# Altium footprint library SAMTEC-SMM-115-02-X-D.PcbLib: 1 footprints
Each footprint in its own frame and in the unit in brackets; x right, y up, seen from the top. Pads: shape width x height; smd on the part's side, far side on the other; paste and mask are expansions set on the pad; w line width, h text height; cw(c..) or ccw(c..) is an arc to the next point about the centre after c.
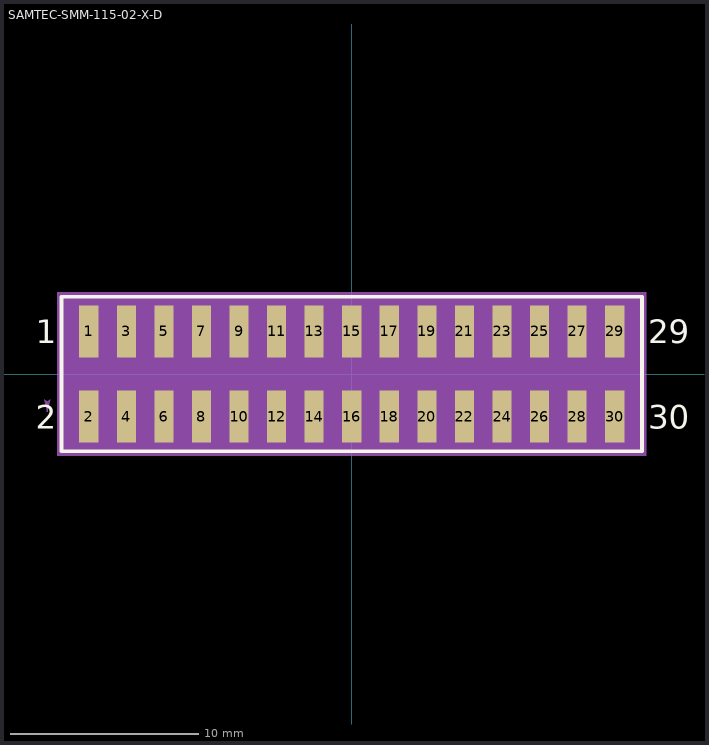
[diagram p0: the footprint, top view; thin cyan lines are the x and y axes]

## SAMTEC-SMM-115-02-X-D [mm]
pads (30):
  rect 1.02x2.77 smd mask+0: 1(-14,2.273) 2(-14,-2.273) 3(-12,2.273) 4(-12,-2.273) 5(-10,2.273) 6(-10,-2.273) 7(-8,2.273) 8(-8,-2.273) 9(-6,2.273) 10(-6,-2.273) 11(-4,2.273) 12(-4,-2.273) 13(-2,2.273) 14(-2,-2.273) 15(0,2.273) 16(0,-2.273) 17(2,2.273) 18(2,-2.273) 19(4,2.273) 20(4,-2.273) 21(6,2.273) 22(6,-2.273) 23(8,2.273) 24(8,-2.273) 25(10,2.273) 26(10,-2.273) 27(12,2.273) 28(12,-2.273) 29(14,2.273) 30(14,-2.273)
Top Overlay:
  lines w0.2: -15.449,-4.109 15.449,-4.109 15.449,4.109 -15.449,4.109 -15.449,-4.109
  text "29" at 15.79,1.638 h1.27
  text "30" at 15.79,-2.908 h1.27
  text "1" at -16.819,1.638 h1.27
  text "2" at -16.819,-2.908 h1.27
Top Paste:
  region: 14.51,-3.658 13.49,-3.658 13.49,-0.888 14.51,-0.888
  region: 14.51,0.888 13.49,0.888 13.49,3.658 14.51,3.658
  region: 12.51,-3.658 11.49,-3.658 11.49,-0.888 12.51,-0.888
  region: 12.51,0.888 11.49,0.888 11.49,3.658 12.51,3.658
  region: 10.51,-3.658 9.49,-3.658 9.49,-0.888 10.51,-0.888
  region: 10.51,0.888 9.49,0.888 9.49,3.658 10.51,3.658
  region: 8.51,-3.658 7.49,-3.658 7.49,-0.888 8.51,-0.888
  region: 8.51,0.888 7.49,0.888 7.49,3.658 8.51,3.658
  region: 6.51,-3.658 5.49,-3.658 5.49,-0.888 6.51,-0.888
  region: 6.51,0.888 5.49,0.888 5.49,3.658 6.51,3.658
  region: 4.51,-3.658 3.49,-3.658 3.49,-0.888 4.51,-0.888
  region: 4.51,0.888 3.49,0.888 3.49,3.658 4.51,3.658
  region: 2.51,-3.658 1.49,-3.658 1.49,-0.888 2.51,-0.888
  region: 2.51,0.888 1.49,0.888 1.49,3.658 2.51,3.658
  region: 0.51,-3.658 -0.51,-3.658 -0.51,-0.888 0.51,-0.888
  region: 0.51,0.888 -0.51,0.888 -0.51,3.658 0.51,3.658
  region: -1.49,-3.658 -2.51,-3.658 -2.51,-0.888 -1.49,-0.888
  region: -1.49,0.888 -2.51,0.888 -2.51,3.658 -1.49,3.658
  region: -3.49,-3.658 -4.51,-3.658 -4.51,-0.888 -3.49,-0.888
  region: -3.49,0.888 -4.51,0.888 -4.51,3.658 -3.49,3.658
  region: -5.49,-3.658 -6.51,-3.658 -6.51,-0.888 -5.49,-0.888
  region: -5.49,0.888 -6.51,0.888 -6.51,3.658 -5.49,3.658
  region: -7.49,-3.658 -8.51,-3.658 -8.51,-0.888 -7.49,-0.888
  region: -7.49,0.888 -8.51,0.888 -8.51,3.658 -7.49,3.658
  region: -9.49,-3.658 -10.51,-3.658 -10.51,-0.888 -9.49,-0.888
  region: -9.49,0.888 -10.51,0.888 -10.51,3.658 -9.49,3.658
  region: -11.49,-3.658 -12.51,-3.658 -12.51,-0.888 -11.49,-0.888
  region: -11.49,0.888 -12.51,0.888 -12.51,3.658 -11.49,3.658
  region: -13.49,-3.658 -14.51,-3.658 -14.51,-0.888 -13.49,-0.888
  region: -13.49,0.888 -14.51,0.888 -14.51,3.658 -13.49,3.658
Top Solder:
  region: 14.561,-3.709 13.439,-3.709 13.439,-0.837 14.561,-0.837
  region: 14.561,0.837 13.439,0.837 13.439,3.709 14.561,3.709
  region: 12.561,-3.709 11.439,-3.709 11.439,-0.837 12.561,-0.837
  region: 12.561,0.837 11.439,0.837 11.439,3.709 12.561,3.709
  region: 10.561,-3.709 9.439,-3.709 9.439,-0.837 10.561,-0.837
  region: 10.561,0.837 9.439,0.837 9.439,3.709 10.561,3.709
  region: 8.561,-3.709 7.439,-3.709 7.439,-0.837 8.561,-0.837
  region: 8.561,0.837 7.439,0.837 7.439,3.709 8.561,3.709
  region: 6.561,-3.709 5.439,-3.709 5.439,-0.837 6.561,-0.837
  region: 6.561,0.837 5.439,0.837 5.439,3.709 6.561,3.709
  region: 4.561,-3.709 3.439,-3.709 3.439,-0.837 4.561,-0.837
  region: 4.561,0.837 3.439,0.837 3.439,3.709 4.561,3.709
  region: 2.561,-3.709 1.439,-3.709 1.439,-0.837 2.561,-0.837
  region: 2.561,0.837 1.439,0.837 1.439,3.709 2.561,3.709
  region: 0.561,-3.709 -0.561,-3.709 -0.561,-0.837 0.561,-0.837
  region: 0.561,0.837 -0.561,0.837 -0.561,3.709 0.561,3.709
  region: -1.439,-3.709 -2.561,-3.709 -2.561,-0.837 -1.439,-0.837
  region: -1.439,0.837 -2.561,0.837 -2.561,3.709 -1.439,3.709
  region: -3.439,-3.709 -4.561,-3.709 -4.561,-0.837 -3.439,-0.837
  region: -3.439,0.837 -4.561,0.837 -4.561,3.709 -3.439,3.709
  region: -5.439,-3.709 -6.561,-3.709 -6.561,-0.837 -5.439,-0.837
  region: -5.439,0.837 -6.561,0.837 -6.561,3.709 -5.439,3.709
  region: -7.439,-3.709 -8.561,-3.709 -8.561,-0.837 -7.439,-0.837
  region: -7.439,0.837 -8.561,0.837 -8.561,3.709 -7.439,3.709
  region: -9.439,-3.709 -10.561,-3.709 -10.561,-0.837 -9.439,-0.837
  region: -9.439,0.837 -10.561,0.837 -10.561,3.709 -9.439,3.709
  region: -11.439,-3.709 -12.561,-3.709 -12.561,-0.837 -11.439,-0.837
  region: -11.439,0.837 -12.561,0.837 -12.561,3.709 -11.439,3.709
  region: -13.439,-3.709 -14.561,-3.709 -14.561,-0.837 -13.439,-0.837
  region: -13.439,0.837 -14.561,0.837 -14.561,3.709 -13.439,3.709
Mechanical 13:
  drawing of 285 lines, arcs and shapes, not listed
  text "29" at 15.79,1.638 h1.27
  text "30" at 15.79,-2.908 h1.27
  text "1" at -16.819,1.638 h1.27
  text "2" at -16.819,-2.908 h1.27
Mechanical 15:
  region: 15.684,-4.344 -15.684,-4.344 -15.684,4.344 15.684,4.344
3D body "SMM-115-02-S-D.stp": height 3.68, standoff 0, extent -14.992,-3.146 14.992,3.146